# EAGLE library part ESP32-WROVER-(I)E (library ali_modules)
ESP32-WROVER-(I)E module Datasheet <https://documentation.espressif.com/esp32-wrover-e_esp32-wrover-ie_datasheet_en.pdf>
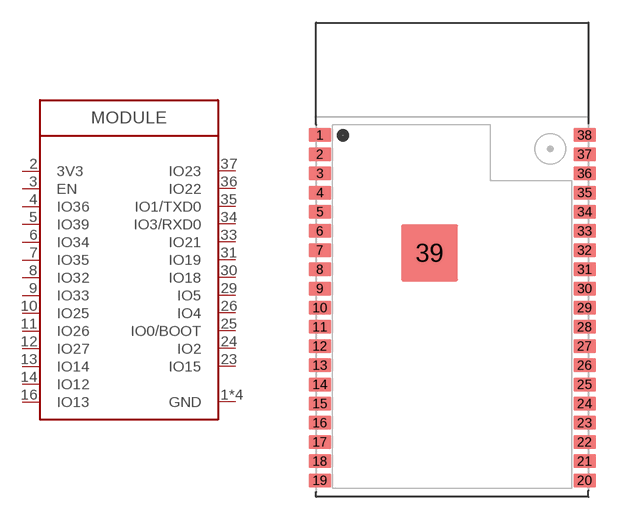
[diagram p12: symbol with the pads of ESP32-WROVER-E; footprint ESP32-WROVER-E]

Designator prefix MODULE

## ESP32-WROVER-(I)E (MANF: Espressif Systems; MANF#: ESP32-WROVER-E-N4R8)  [ESP32-WROVER-E]
1  GND  hiz
2  3V3  pas
3  EN  hiz
4  IO36  hiz
5  IO39  hiz
6  IO34  hiz
7  IO35  hiz
8  IO32  hiz
9  IO33  hiz
10  IO25  hiz
11  IO26  hiz
12  IO27  hiz
13  IO14  hiz
14  IO12  hiz
15  GND  hiz
16  IO13  hiz
23  IO15  hiz
24  IO2  hiz
25  IO0/BOOT  hiz
26  IO4  hiz
29  IO5  hiz
30  IO18  hiz
31  IO19  hiz
33  IO21  hiz
34  IO3/RXD0  hiz
35  IO1/TXD0  hiz
36  IO22  hiz
37  IO23  hiz
38  GND  hiz
39  GND  hiz

## Footprint ESP32-WROVER-E (pad centres in mm)
ESP32-WROVER-(I)E Igor Odaikin, Oct 2021 3D model <https://grabcad.com/library/esp32-wrover-2>
smd 1.473 x 0.914: 1 -8.763,8.255; 2 -8.763,6.985; 3 -8.763,5.715; 4 -8.763,4.445; 5 -8.763,3.175; 6 -8.763,1.905; 7 -8.763,0.635; 8 -8.763,-0.635; 9 -8.763,-1.905; 10 -8.763,-3.175; 11 -8.763,-4.445; 12 -8.763,-5.715; 13 -8.763,-6.985; 14 -8.763,-8.255; 15 -8.763,-9.525; 16 -8.763,-10.795; 17 -8.763,-12.065; 18 -8.763,-13.335; 19 -8.763,-14.605; 20 8.763,-14.605; 21 8.763,-13.335; 22 8.763,-12.065; 23 8.763,-10.795; 24 8.763,-9.525; 25 8.763,-8.255; 26 8.763,-6.985; 27 8.763,-5.715; 28 8.763,-4.445; 29 8.763,-3.175; 30 8.763,-1.905; 31 8.763,-0.635; 32 8.763,0.635; 33 8.763,1.905; 34 8.763,3.175; 35 8.763,4.445; 36 8.763,5.715; 37 8.763,6.985; 38 8.763,8.255
smd 3.75 x 3.75: 39 -1.5,0.455